# EAGLE library part FLE-110-01-G-DV (library Jack-connectors)
Samtec Cost effective reliable socket 20 way, pass thru
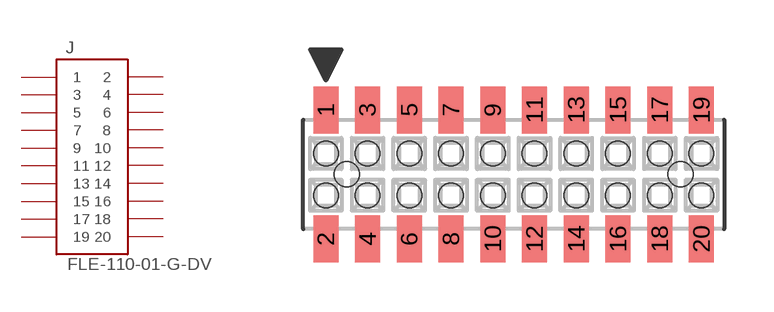
[diagram p7: symbol with the pads of FLE-110-01-G-DV/PASSTHRU; footprint FLE-110-01-G-DV/PASSTHRU]

Designator prefix J

## FLE-110-01-G-DV-(PASS_TRU) (DESCRIPTION: Samtec 20 way, pass thru socket; PACK: FLE-110-01-G-DV)  [FLE-110-01-G-DV/PASSTHRU]
1  1  pas
2  2  pas
3  3  pas
4  4  pas
5  5  pas
6  6  pas
7  7  pas
8  8  pas
9  9  pas
10  10  pas
11  11  pas
12  12  pas
13  13  pas
14  14  pas
15  15  pas
16  16  pas
17  17  pas
18  18  pas
19  19  pas
20  20  pas

## Footprint FLE-110-01-G-DV/PASSTHRU (pad centres in mm)
smd 0.76 x 1.435: 1 -5.715,1.962; 2 -5.715,-1.962; 3 -4.445,1.962; 4 -4.445,-1.962; 5 -3.175,1.962; 6 -3.175,-1.962; 7 -1.905,1.962; 8 -1.905,-1.962; 9 -0.635,1.962; 10 -0.635,-1.962; 11 0.635,1.962; 12 0.635,-1.962; 13 1.905,1.962; 14 1.905,-1.962; 15 3.175,1.962; 16 3.175,-1.962; 17 4.445,1.962; 18 4.445,-1.962; 19 5.715,1.962; 20 5.715,-1.962
hole 0.76 at -5.08,0
hole 0.76 at 5.08,0
hole 0.74 at -5.715,0.635
hole 0.74 at -4.445,0.635
hole 0.74 at -3.175,0.635
hole 0.74 at -1.905,0.635
hole 0.74 at -0.635,0.635
hole 0.74 at 0.635,0.635
hole 0.74 at 1.905,0.635
hole 0.74 at 3.175,0.635
hole 0.74 at 4.445,0.635
hole 0.74 at 5.715,0.635
hole 0.74 at 5.715,-0.635
hole 0.74 at 4.445,-0.635
hole 0.74 at 3.175,-0.635
hole 0.74 at 1.905,-0.635
hole 0.74 at 0.635,-0.635
hole 0.74 at -0.635,-0.635
hole 0.74 at -1.905,-0.635
hole 0.74 at -3.175,-0.635
hole 0.74 at -4.445,-0.635
hole 0.74 at -5.715,-0.635